# Altium footprint library FC -203 15mm.PcbLib: 1 footprints
Each footprint in its own frame and in the unit in brackets; x right, y up, seen from the top. Pads: shape width x height; smd on the part's side, far side on the other; paste and mask are expansions set on the pad; w line width, h text height; cw(c..) or ccw(c..) is an arc to the next point about the centre after c.
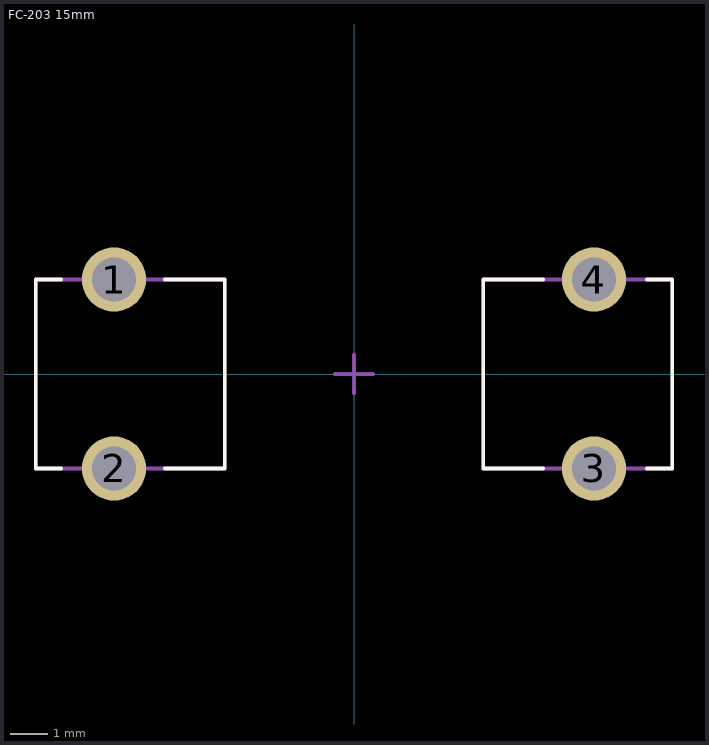
[diagram p0: the footprint, top view; thin cyan lines are the x and y axes]

## FC-203 15mm [mm]
pads (4):
  round 1.7 hole 1.17: 1(-6.35,2.5) 2(-6.35,-2.5) 3(6.35,-2.5) 4(6.35,2.5)
Top Overlay:
  lines w0.1: -7.75,-2.5 -8.42,-2.5 -8.42,2.5 -7.75,2.5 ; -5,-2.5 -3.42,-2.5 -3.42,2.5 -5,2.5 ; 5,-2.5 3.42,-2.5 3.42,2.5 5,2.5 ; 7.75,-2.5 8.42,-2.5 8.42,2.5 7.75,2.5
Mechanical 13:
  lines w0.1: -8.42,-2.5 -3.42,-2.5 -3.42,2.5 -6.35,2.5 -8.42,2.5 -8.42,-2.5 ; 3.42,-2.5 8.42,-2.5 8.42,2.5 6.35,2.5 3.42,2.5 3.42,-2.5
Mechanical 15 (Mech15):
  lines w0.1: -0.5,0 0,0 ; 0,-0.5 0,0 ; 0,0.5 0,0 ; 0.5,0 0,0
3D body "Cartridge Fuse 5x15mm.STEP": height 5.55, standoff 0.45, extent -10,-2.55 10,2.55